# EAGLE library part WIO-E5_MINI (library Soil Power Sensor)
Wio-E5 mini is a compacted-sized development board suitable for the rapid testing and building of small-size prototyping and helps you design your ideal LoRaWAN® wireless IoT device with a long-distance transmission range.
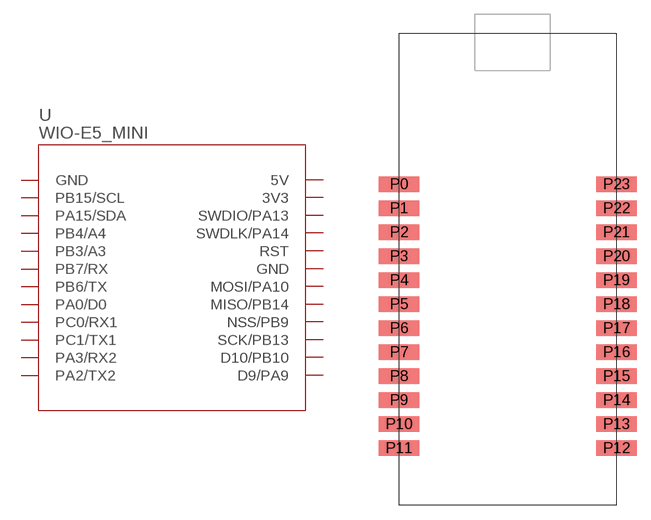
[diagram p10: symbol with the pads of WIO-E5_MINI; footprint WIO-E5_MINI]

Designator prefix U

## WIO-E5_MINI (AUTHOR: John Madden <jmadden173@pm.me>; DATE_CREATE: 2023-08-23; DATE_MODIFIED: 2023-08-23; MFC: Seeedstudio; MPN: 113990939; REF: https://wiki.seeedstudio.com/LoRa_E5_mini/)  [WIO-E5_MINI]
P0  GND  pwr
P1  PB15/SCL
P2  PA15/SDA
P3  PB4/A4
P4  PB3/A3
P5  PB7/RX
P6  PB6/TX
P7  PA0/D0
P8  PC0/RX1
P9  PC1/TX1
P10  PA3/RX2
P11  PA2/TX2
P12  D9/PA9
P13  D10/PB10
P14  SCK/PB13
P15  NSS/PB9
P16  MISO/PB14
P17  MOSI/PA10
P18  GND  pwr
P19  RST
P20  SWDLK/PA14
P21  SWDIO/PA13
P22  3V3  pwr
P23  5V  pwr

## Footprint WIO-E5_MINI (pad centres in mm)
smd 4.3 x 1.65: P0 0,0; P1 0,-2.54; P2 0,-5.08; P3 0,-7.62; P4 0,-10.16; P5 0,-12.7; P6 0,-15.24; P7 0,-17.78; P8 0,-20.32; P9 0,-22.86; P10 0,-25.4; P11 0,-27.94; P12 23,-27.94; P13 23,-25.4; P14 23,-22.86; P15 23,-20.32; P16 23,-17.78; P17 23,-15.24; P18 23,-12.7; P19 23,-10.16; P20 23,-7.62; P21 23,-5.08; P22 23,-2.54; P23 23,0